# EAGLE library part CAT5171TBI (library misc)
Digital Potentiometer Circuit 256 Taps I²C Interface SOT-23-8
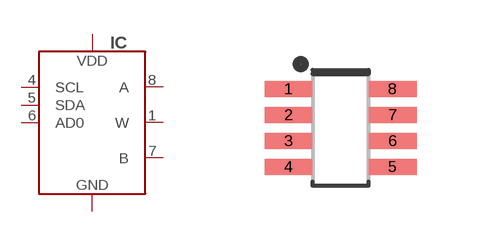
[diagram p41: symbol with the pads of SOT23-8; footprint SOT23-8]

Designator prefix IC

## CAT5171TBI-00GT3 (MANF: ON Semiconductor), CAT5171TBI-50GT3 (DIGIKEY#: CAT5171TBI-50GT3OSCT-ND; LCSC#: C154777; MANF: ON Semiconductor; MANF#: CAT5171TBI-50GT3)  [SOT23-8]
1  W
2  VDD
3  GND
4  SCL
5  SDA
6  AD0
7  B
8  A

## Footprint SOT23-8 (pad centres in mm)
3D model <https://www.3dcontentcentral.com/secure/download-model.aspx?catalogid=171&id=1608809>
smd 1.2 x 0.4: 1 -1.3,0.975; 2 -1.3,0.325; 3 -1.3,-0.325; 4 -1.3,-0.975; 5 1.3,-0.975; 6 1.3,-0.325; 7 1.3,0.325; 8 1.3,0.975